# EAGLE library part TL084 (library ihpcb-tl084)
OPAMP
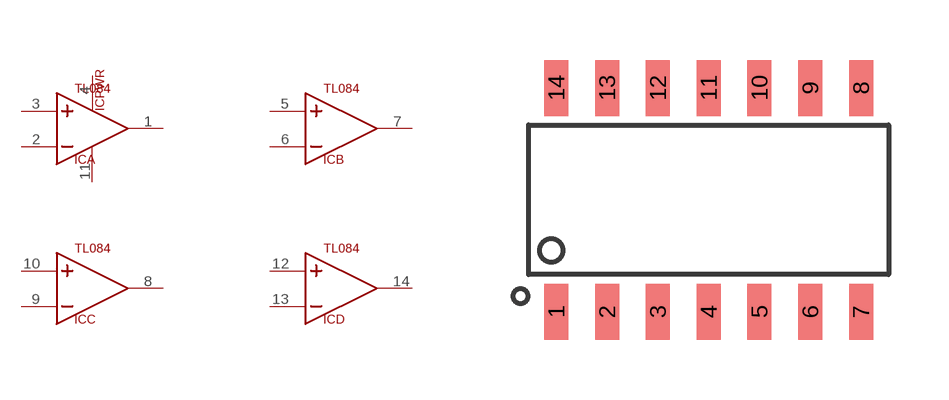
[diagram p0: symbol with the pads of SO14; footprint SO14]

Designator prefix IC; gates A=OPAMP B=OPAMP C=OPAMP D=OPAMP PWR=PWR

## TL084  [SO14]
1  A:OUT  out
2  A:IN-  in
3  A:IN+  in
4  PWR:VCC+  pwr
5  B:IN+  in
6  B:IN-  in
7  B:OUT  out
8  C:OUT  out
9  C:IN-  in
10  C:IN+  in
11  PWR:VCC-  pwr
12  D:IN+  in
13  D:IN-  in
14  D:OUT  out

## Footprint SO14 (pad centres in mm)
smd 0.6 x 1.4: 1 -3.81,-2.8; 2 -2.54,-2.8; 3 -1.27,-2.8; 4 0,-2.8; 5 1.27,-2.8; 6 2.54,-2.8; 7 3.81,-2.8; 8 3.81,2.8; 9 2.54,2.8; 10 1.27,2.8; 11 0,2.8; 12 -1.27,2.8; 13 -2.54,2.8; 14 -3.81,2.8